# Altium schematic symbol library CP2102N-A01-GQFN20R.SchLib: 1 symbol
Pins are listed as number, name and electrical type; pins without a type are passive.

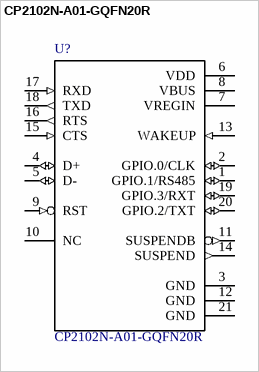
[diagram p0: symbol CP2102N-A01-GQFN20R]

## CP2102N-A01-GQFN20R
designator U?
/ Ic Bridge Usb To Uart 20qfn /; MF: Silicon Labs; SnapEDA_Link: https://www.snapeda.com/parts/CP2102N-A01-GQFN20R/Silicon%20Labs/view-part/?ref=snap; MP: CP2102N-A01-GQFN20R; Package: QFN-20 Silicon Labs; Digi-Key_Purchase_URL: https://www.digikey.es/product-detail/en/silicon-labs/CP2102N-A01-GQFN20R/336-4826-1-ND/8619802?utm_source=snapeda&utm_medium=aggregator&utm_campaign=symbol; Digi-Key_Part_Number: 336-4826-1-ND; Value: *
footprint *SILABS_QFN20
pins: 1 GPIO.1/RS485 (io), 2 GPIO.0/CLK (io), 3 GND (power), 4 D+ (io), 5 D- (io), 6 VDD (power), 7 VREGIN (power), 8 VBUS (power), 9 RST (in), 10 NC, 11 SUSPENDB (out), 12 GND (power), 13 WAKEUP (in), 14 SUSPEND (out), 15 CTS (in), 16 RTS (out), 17 RXD (in), 18 TXD (out), 19 GPIO.3/RXT (io), 20 GPIO.2/TXT (io), 21 GND (power)